# EAGLE library part LM1881 (library Traficon)
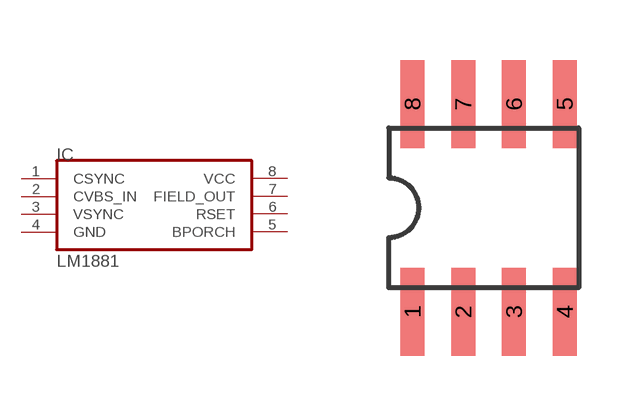
[diagram p41: symbol with the pads of SOIC8; footprint SOIC8]

Designator prefix IC

## LM1881M  [SOIC8]
1  CSYNC  out
2  CVBS_IN  in
3  VSYNC  out
4  GND  pas
5  BPORCH  out
6  RSET  pas
7  FIELD_OUT  out
8  VCC  pas

## Footprint SOIC8 (pad centres in mm)
Small Outline IC
smd 0.6 x 2.2: 1 -1.905,-2.6; 2 -0.635,-2.6; 3 0.635,-2.6; 4 1.905,-2.6; 5 1.905,2.6; 6 0.635,2.6; 7 -0.635,2.6; 8 -1.905,2.6